# EAGLE library part ADP1612_DEV (library ADP1612)
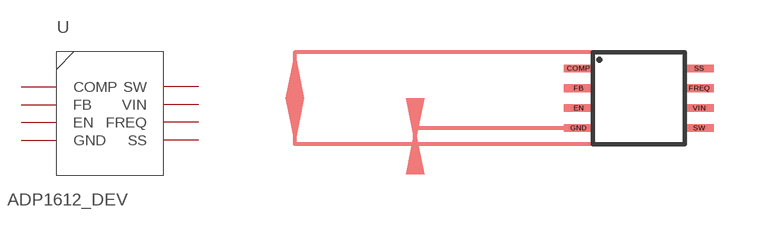
[diagram p0: symbol with the pads of ADP1612_FOOT; footprint ADP1612_FOOT]

Designator prefix -

## ADP1612_DEV  [ADP1612_FOOT]
COMP  COMP
EN  EN
FB  FB
FREQ  FREQ
GND  GND
SS  SS
SW  SW
VIN  VIN

## Footprint ADP1612_FOOT (pad centres in mm)
smd 0.95 x 0.25: COMP -0.475,2.475; EN -0.475,1.175; FB -0.475,1.825; FREQ 3.475,1.825; GND -0.475,0.525; SS 3.475,2.475; SW 3.475,0.525; VIN 3.475,1.175